# Altium schematic symbol library Schlib_NPO_Fizika.SchLib: 1 symbol
Pins are listed as number, name and electrical type; pins without a type are passive.

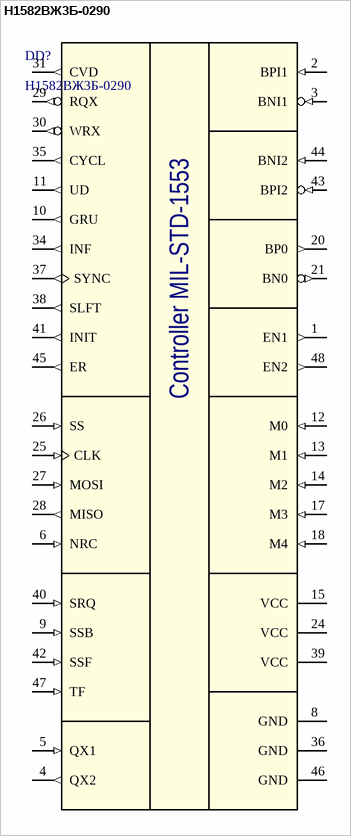
[diagram p0: symbol Н1582ВЖ3Б-0290]

## Н1582ВЖ3Б-0290
designator DD?
Controller MIL-STD-1553; Manufacturer: ОАО НПО «Физика»; Package: PQFP52; Part Nubmer: Н1582ВЖ3Б-0290
footprint H16.48-2B
pins: 1 EN1 (out), 2 BPI1 (in), 3 BNI1 (in), 4 QX2 (out), 5 QX1 (in), 6 NRC (in), 8 GND (power), 9 SSB (in), 10 GRU (out), 11 UD (out), 12 M0 (in), 13 M1 (in), 14 M2 (in), 15 VCC (power), 17 M3 (in), 18 M4 (in), 20 BP0 (out), 21 BN0 (out), 24 VCC (power), 25 CLK (in), 26 SS (in), 27 MOSI (in), 28 MISO (out), 29 RQX (out), 30 WRX (out), 31 CVD (out), 34 INF (out), 35 CYCL (out), 36 GND (power), 37 SYNC (out), 38 SLFT (out), 39 VCC (power), 40 SRQ (in), 41 INIT (out), 42 SSF (in), 43 BPI2 (in), 44 BNI2 (in), 45 ER (out), 46 GND (power), 47 TF (in), 48 EN2 (out)